# Altium schematic symbol library Motors.SchLib: 2 symbols
Pins are listed as number, name and electrical type; pins without a type are passive.

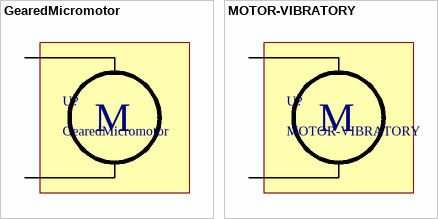
[diagram p0: symbols GearedMicromotor to MOTOR-VIBRATORY]

## GearedMicromotor
designator U?
A cheap-ish brushed DC motor that runs freely at 180RPM/5V@110mA. It has a built-in gearbox and springs that allow mounting directly to a PCB without fasteners.
footprint GearedMicroMotor
pins: 1, 2
text: M

## MOTOR-VIBRATORY
designator U?
A sort of bargain basement miscellaneous kind of vibration motor that can be found on AliExpress. It has springs for connecting directly to a PCB.
footprint MOTOR-VIBRATORY
pins: 1, 2
text: M